# Altium footprint library Diodes.PcbLib: 9 footprints
Each footprint in its own frame and in the unit in brackets; x right, y up, seen from the top. Pads: shape width x height; smd on the part's side, far side on the other; paste and mask are expansions set on the pad; w line width, h text height; cw(c..) or ccw(c..) is an arc to the next point about the centre after c.
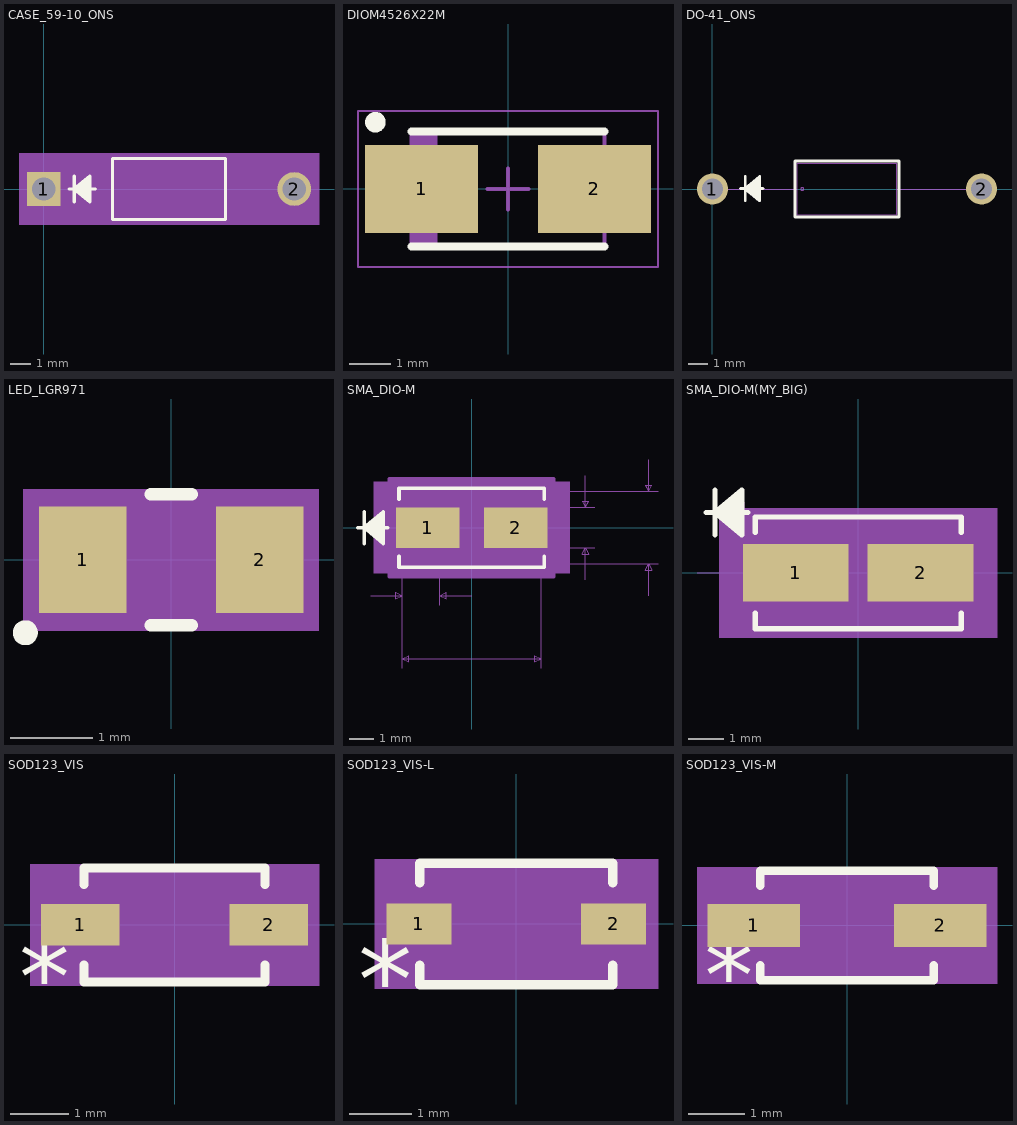
[diagram p0: the footprints below, top view; thin cyan lines are the x and y axes]

## CASE_59-10_ONS [mil]
pads (2):
  rect 64x64 hole 44 mask+0: 1(0,0)
  round 64 hole 44 mask+0: 2(476,0)
Top Overlay:
  lines w6: 48,0 98,0 ; 58,-25 58,25 ; 88,-20 58,0 ; 88,-15 58,0 ; 88,-10 58,0 ; 88,-5 58,0 ; 88,5 58,0 ; 88,10 58,0 ; 88,15 58,0 ; 88,20 58,0 ; 58,0 88,25 88,-25 58,0 ; 130.5,-58 345.5,-58 345.5,58 130.5,58 130.5,-58
Mechanical 5:
  region: 523,-68 -47,-68 -47,68 523,68
Mechanical 13:
  lines w1: 0,0 135.5,0 ; 48,0 98,0 ; 58,-25 58,25 ; 88,-20 58,0 ; 88,-15 58,0 ; 88,-10 58,0 ; 88,-5 58,0 ; 88,5 58,0 ; 88,10 58,0 ; 88,15 58,0 ; 88,20 58,0 ; 340.5,0 476,0 ; 58,0 88,25 88,-25 58,0 ; 135.5,-53 340.5,-53 340.5,53 135.5,53 135.5,-53
Mechanical 15:
  region: 125.5,-42 -42,-42 -42,42 125.5,42 125.5,63 350.5,63 350.5,42 518,42 518,-42 350.5,-42 350.5,-63 125.5,-63
  lines w6: -42,-42 -42,42 125.5,42 125.5,63 350.5,63 350.5,42 518,42 518,-42 350.5,-42 350.5,-63 125.5,-63 125.5,-42 -42,-42
3D body: height 10, standoff 0, extent 0,0 10,10
3D body "CASE_59-10_ONS.step": height 106.06, standoff -100, extent -20.6,-58.22 489.4,47.98

## DIOM4526X22M [mm] "Molded Diode, 2-Leads, Body 4,50x2,60mm, IPC Low Density"
height 2.2
pads (2):
  rect 2.75x2.15 smd: 1(-2.1,0) 2(2.1,0)
Top Overlay:
  circle w0.25: c-3.225,1.625 r0.125
  lines w0.2: -2.35,-1.4 2.35,-1.4 ; -2.35,1.4 2.35,1.4
Mechanical 13:
  rectangle: -2.35,-1.4 -1.718,1.4
  lines w0.1: -2.35,-1.4 2.35,-1.4 2.35,1.4 -2.35,1.4 -2.35,-1.4
Mechanical 15:
  lines w0.05: -3.65,-1.9 3.65,-1.9 3.65,1.9 -3.65,1.9 -3.65,-1.9
  lines w0.1: -0.5,0 0.5,0 ; 0,-0.5 0,0.5
3D body "DO-214AC(SMA).STEP": height 2.17, standoff 0.03, extent -2.6,-1.339 2.506,1.328

## DO-41_ONS [mil]
pads (2):
  round 64 hole 44 mask+0: 1(0,0) 2(556.85,0)
Top Overlay:
  lines w6: 57.83,0.82 104.73,0.82 ; 67.83,-24.18 67.83,25.82 ; 97.83,-19.18 67.83,0.82 ; 97.83,-14.18 67.83,0.82 ; 97.83,-9.18 67.83,0.82 ; 97.83,-4.18 67.83,0.82 ; 97.83,5.82 67.83,0.82 ; 97.83,10.82 67.83,0.82 ; 97.83,15.82 67.83,0.82 ; 97.83,20.82 67.83,0.82 ; 67.83,0.82 97.83,-24.18 97.83,25.82 67.83,0.82 ; 170.93,-58 385.93,-58 385.93,58 170.93,58 170.93,-58
Mechanical 13:
  circle w0: c185.93,0 r3
  lines w1: 0,0 175.93,0 ; 57.83,0.82 107.83,0.82 ; 67.83,-24.18 67.83,25.82 ; 97.83,-19.18 67.83,0.82 ; 97.83,-14.18 67.83,0.82 ; 97.83,-9.18 67.83,0.82 ; 97.83,-4.18 67.83,0.82 ; 97.83,5.82 67.83,0.82 ; 97.83,10.82 67.83,0.82 ; 97.83,15.82 67.83,0.82 ; 97.83,20.82 67.83,0.82 ; 380.93,0 556.85,0 ; 67.83,0.82 97.83,-24.18 97.83,25.82 67.83,0.82 ; 175.93,-53 380.93,-53 380.93,53 175.93,53 175.93,-53
3D body: height 10, standoff 0, extent 0,0 10,10
3D body "DO-41_ONS.step": height 106.06, standoff -100, extent -15.1,-57.08 575.76,49.12

## LED_LGR971 [mil]
pads (2):
  rect 42x51 smd paste+0 mask+0: 1(-42.5,0) 2(42.5,0)
Top Overlay:
  circle w6: c-70,-35 r3
  lines w6: -9.85,-31.5 9.85,-31.5 ; -9.85,31.5 9.85,31.5
Mechanical 5:
  region: 71,-34 -71,-34 -71,34 71,34
Mechanical 13:
  circle w0: c-42.5,0 r3
  lines w1: -41.5,-26.5 -41.5,26.5 41.5,26.5 41.5,-26.5 -41.5,-26.5 ; -41.5,-24.5 -41.5,24.5 -41.5,-24.5 ; 41.5,-24.5 41.5,24.5 41.5,-24.5
3D body: height 10, standoff 0, extent 0,0 10,10
3D body "LED_LGR97.step": height 35.12, standoff 0, extent -41.5,-26.5 41.5,26.5

## SMA_DIO-M [mm]
pads (2):
  rect 2.561x1.63 smd paste+0 mask+0: 1(-1.768,0) 2(1.768,0)
Top Overlay:
  lines w0.152: -4.573,0 -3.382,0 ; -4.319,-0.635 -4.319,0.635 ; -3.557,-0.508 -4.319,0 ; -3.557,-0.381 -4.319,0 ; -3.557,-0.254 -4.319,0 ; -3.557,-0.127 -4.319,0 ; -3.557,0.127 -4.319,0 ; -3.557,0.254 -4.319,0 ; -3.557,0.381 -4.319,0 ; -3.557,0.508 -4.319,0 ; -2.922,-1.148 -2.922,-1.587 2.922,-1.587 2.922,-1.148 ; -2.922,1.148 -2.922,1.587 2.922,1.587 2.922,1.148 ; -4.319,0 -3.557,-0.635 -3.557,0.635 -4.319,0
Mechanical 5:
  region: 3.938,-1.841 -3.938,-1.841 -3.938,1.841 3.938,1.841
Mechanical 7:
  lines w0.025: -4.065,-2.73 -2.795,-2.73 ; -2.795,-5.651 -2.795,0 -2.795,-3.111 ; -1.275,-3.111 -1.275,0 ; -0.005,-2.73 -1.275,-2.73 ; 2.795,-5.651 2.795,0 ; 3.303,-1.46 7.494,-1.46 ; 3.303,-0.815 4.954,-0.815 ; 3.303,0.815 4.954,0.815 ; 3.303,1.46 7.494,1.46 ; 4.573,-2.085 4.573,-0.815 ; 4.573,2.085 4.573,0.815 ; 7.113,-2.73 7.113,-1.46 ; 7.113,2.73 7.113,1.46 ; -2.795,-5.27 -2.541,-5.397 -2.541,-5.143 -2.795,-5.27 ; -2.795,-5.27 2.795,-5.27 ; -2.795,-2.73 -3.049,-2.857 -3.049,-2.603 -2.795,-2.73 ; -1.275,-2.73 -1.021,-2.857 -1.021,-2.603 -1.275,-2.73 ; 2.795,-5.27 2.541,-5.397 2.541,-5.143 2.795,-5.27 ; 4.573,-0.815 4.7,-1.069 4.446,-1.069 4.573,-0.815 ; 4.573,0.815 4.7,1.069 4.446,1.069 4.573,0.815 ; 7.113,-1.46 7.24,-1.714 6.986,-1.714 7.113,-1.46 ; 7.113,1.46 7.24,1.714 6.986,1.714 7.113,1.46
  text "0.06in/1.52mm" at -4.099,-3.873 h0.64
  text "0.22in/5.59mm" at -2.064,-6.413 h0.64
  text "0.115in/2.92mm" at 7.621,-0.318 h0.64
  text "0.064in/1.63mm" at 5.081,-0.318 h0.64
  text "Alt 2 Padstyle: OX90Y60D30P" at -8.572,-12.255 h1.27
  text "Alt 1 Padstyle: OX60Y90D30P" at -8.572,-10.35 h1.27
  text "Default Padstyle: RX100p84Y64p17D0T" at -11.112,-8.445 h1.27
Mechanical 13:
  lines w0.025: -4.573,0 -3.303,0 ; -4.319,-0.635 -4.319,0.635 ; -3.557,-0.508 -4.319,0 ; -3.557,-0.381 -4.319,0 ; -3.557,-0.254 -4.319,0 ; -3.557,-0.127 -4.319,0 ; -3.557,0.127 -4.319,0 ; -3.557,0.254 -4.319,0 ; -3.557,0.381 -4.319,0 ; -3.557,0.508 -4.319,0 ; -4.319,0 -3.557,-0.635 -3.557,0.635 -4.319,0 ; -2.795,-1.46 -2.795,1.46 2.795,1.46 2.795,-1.46 -2.795,-1.46
Mechanical 15:
  region: -3.303,-1.323 -3.557,-1.323 -3.557,1.323 -3.303,1.323 -3.303,1.968 3.303,1.968 3.303,1.323 3.557,1.323 3.557,-1.323 3.303,-1.323 3.303,-1.968 -3.303,-1.968
  lines w0.152: -3.557,-1.323 -3.303,-1.323 -3.303,-1.968 3.303,-1.968 3.303,-1.323 3.557,-1.323 3.557,1.323 3.303,1.323 3.303,1.968 -3.303,1.968 -3.303,1.323 -3.557,1.323 -3.557,-1.323
3D body: height 0.25, standoff 0, extent 0,0 0.254,0.254

## SMA_DIO-M(MY_BIG) [mm]
pads (2):
  rect 3x1.63 smd paste+0 mask+0: 1(-1.768,0) 2(1.768,0)
Top Overlay:
  lines w0.152: -4.318,1.714 -3.127,1.714 ; -4.064,1.079 -4.064,2.349 ; -3.302,1.206 -4.064,1.714 ; -3.302,1.333 -4.064,1.714 ; -3.302,1.46 -4.064,1.714 ; -3.302,1.587 -4.064,1.714 ; -3.302,1.841 -4.064,1.714 ; -3.302,1.968 -4.064,1.714 ; -3.302,2.095 -4.064,1.714 ; -3.302,2.222 -4.064,1.714 ; -2.922,-1.148 -2.922,-1.587 2.922,-1.587 2.922,-1.148 ; -2.922,1.148 -2.922,1.587 2.922,1.587 2.922,1.148 ; -4.064,1.714 -3.302,2.349 -3.302,1.079 -4.064,1.714
Mechanical 5:
  region: 3.938,-1.841 -3.938,-1.841 -3.938,1.841 3.938,1.841
Mechanical 13:
  lines w0.025: -4.573,0 -3.303,0 ; -4.064,1.079 -4.064,2.349 ; -3.302,1.206 -4.064,1.714 ; -3.302,1.333 -4.064,1.714 ; -3.302,1.46 -4.064,1.714 ; -3.302,1.587 -4.064,1.714 ; -3.302,1.841 -4.064,1.714 ; -3.302,1.968 -4.064,1.714 ; -3.302,2.095 -4.064,1.714 ; -3.302,2.222 -4.064,1.714 ; -4.064,1.714 -3.302,2.349 -3.302,1.079 -4.064,1.714 ; -2.795,-1.46 2.795,-1.46 2.795,1.46 -2.795,1.46 -2.795,-1.46
Mechanical 15:
  lines w0.152: -3.303,-1.323 -3.557,-1.323 -3.557,1.323 -3.303,1.323 -3.303,1.968 ; 3.303,-1.323 3.557,-1.323 3.557,1.323 3.303,1.323
3D body: height 0.25, standoff 0, extent 0,0 0.254,0.254
3D body "SMA_DIO.step": height 2.35, standoff 0, extent -2.795,-1.46 2.795,1.46

## SOD123_VIS [mil]
pads (2):
  rect 53x28 smd paste+0 mask+0: 1(-63.5,0) 2(63.5,0)
Top Overlay:
  lines w6: -61,-27.1 -61,-38.5 61,-38.5 61,-27.1 ; -61,27.1 -61,38.5 61,38.5 61,27.1
  text "*" at -105,-60 h50
Mechanical 5:
  region: 97.5,-41 -97.5,-41 -97.5,41 97.5,41
Mechanical 13:
  lines w1: -56,-16.75 -39.25,-33.5 ; -56,16.75 -39.25,33.5 ; -76,-13 -56,-13 -56,13 -76,13 -76,-13 ; -56,-33.5 -56,33.5 56,33.5 56,-33.5 -56,-33.5 ; 56,-13 76,-13 76,13 56,13 56,-13
  text "*" at -58.5,-25 h50
3D body: height 10, standoff 0, extent 0,0 10,10

## SOD123_VIS-L [mil]
pads (2):
  rect 41x26 smd paste+0 mask+0: 1(-61.5,0) 2(61.5,0)
Top Overlay:
  lines w6: -61,-26.1 -61,-38.5 61,-38.5 61,-26.1 ; -61,26.1 -61,38.5 61,38.5 61,26.1
  text "*" at -100,-60 h50
Mechanical 5:
  region: 89.5,-41 -89.5,-41 -89.5,41 89.5,41
Mechanical 13:
  lines w1: -56,-16.75 -39.25,-33.5 ; -56,16.75 -39.25,33.5 ; -76,-13 -76,13 -56,13 -56,-13 -76,-13 ; -56,-33.5 56,-33.5 56,33.5 -56,33.5 -56,-33.5 ; 56,-13 56,13 76,13 76,-13 56,-13
  text "*" at -58.5,-25 h50
3D body: height 10, standoff 0, extent 0,0 10,10

## SOD123_VIS-M [mil]
pads (2):
  rect 65x30 smd paste+0 mask+0: 1(-65.5,0) 2(65.5,0)
Top Overlay:
  lines w6: -61,-28.1 -61,-38.5 61,-38.5 61,-28.1 ; -61,28.1 -61,38.5 61,38.5 61,28.1
  text "*" at -100,-60 h50
Mechanical 5:
  region: 105.5,-41 -105.5,-41 -105.5,41 105.5,41
Mechanical 13:
  lines w1: -56,-16.75 -39.25,-33.5 ; -56,16.75 -39.25,33.5 ; -76,-13 -76,13 -56,13 -56,-13 -76,-13 ; -56,-33.5 56,-33.5 56,33.5 -56,33.5 -56,-33.5 ; 56,-13 56,13 76,13 76,-13 56,-13
  text "*" at -58.5,-25 h50
3D body "SOD123_VIS.step": height 32.09, standoff 0, extent -75.98,-33.51 75.99,33.5
3D body: height 10, standoff 0, extent 0,0 10,10